# Altium footprint library 47uF.PcbLib: 1 footprints
Each footprint in its own frame and in the unit in brackets; x right, y up, seen from the top. Pads: shape width x height; smd on the part's side, far side on the other; paste and mask are expansions set on the pad; w line width, h text height; cw(c..) or ccw(c..) is an arc to the next point about the centre after c.
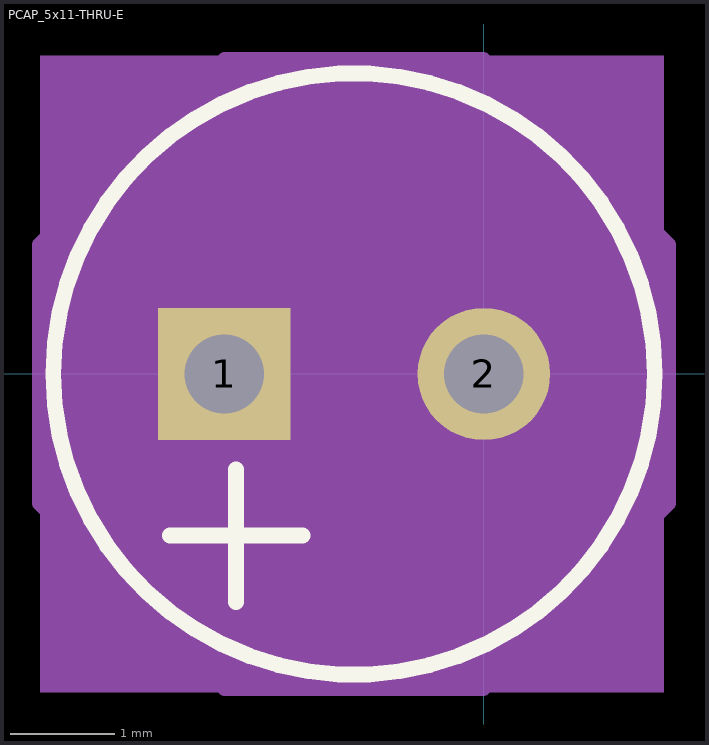
[diagram p0: the footprint, top view; thin cyan lines are the x and y axes]

## PCAP_5x11-THRU-E [mil]
pads (2):
  rect 50x50 hole 30: 1(-98,0)
  round 50 hole 30 mask+0: 2(0,0)
Top Overlay:
  circle w6: c-49,0 r113.5
  lines w6: -118.5,-61.02 -68.5,-61.02 ; -93.5,-86.02 -93.5,-36.02
Mechanical 5:
  region: 67.91,-120.08 -167.32,-120.08 -167.32,120.08 67.91,120.08
Mechanical 13:
  circle w0: c-49,0 r108.5
  lines w1: -118.5,-61.02 -68.5,-61.02 ; -93.5,-86.02 -93.5,-36.02
Mechanical 15:
  region: -167.5,48.79 -97.79,118.5 -0.21,118.5 69.5,48.79 69.5,-48.79 -0.21,-118.5 -97.79,-118.5 -167.5,-48.79
  lines w6: -167.5,-48.79 -167.5,48.79 -97.79,118.5 -0.21,118.5 69.5,48.79 69.5,-48.79 -0.21,-118.5 -97.79,-118.5 -167.5,-48.79
3D body "PCAP_5x11-THRU-ELECT.step": height 490.47, standoff -176.14, extent -157.72,-108.03 59.69,108.97
3D body: height 10, standoff 0, extent 0,0 10,10